# Altium schematic symbol library boxer_mechanical.SchLib: 25 symbols
Pins are listed as number, name and electrical type; pins without a type are passive.

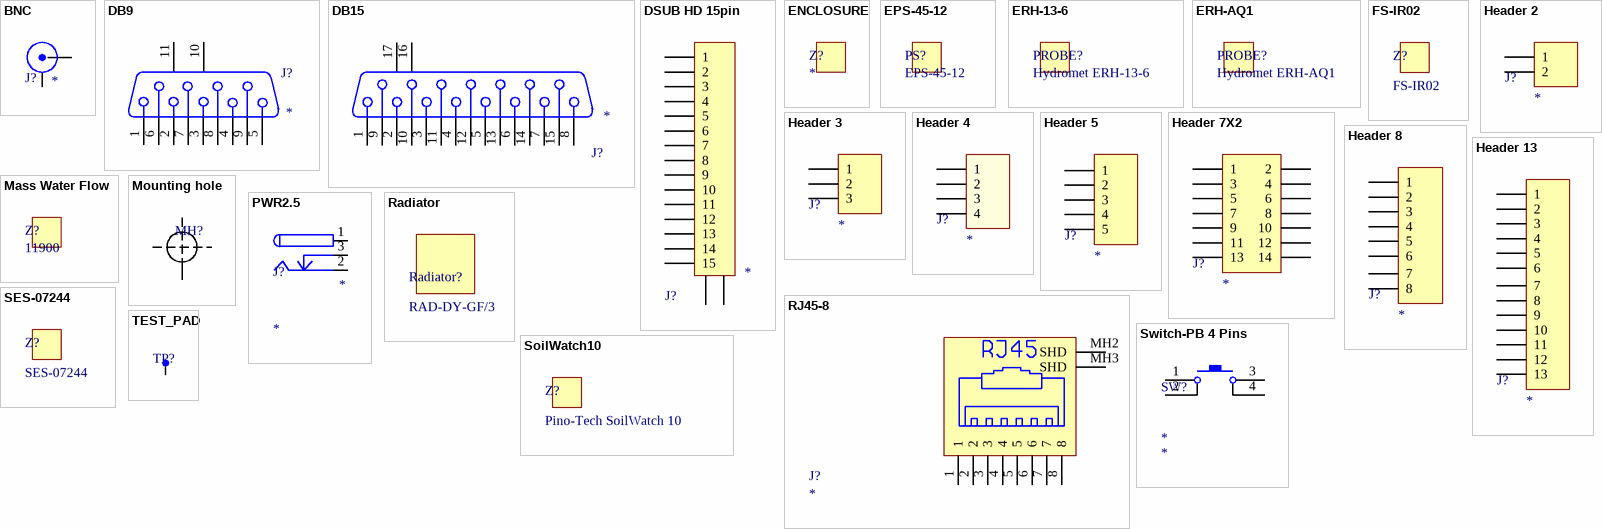
[diagram p0: symbols BNC to TEST_PAD]

## BNC
designator J?  (value not drawn)
BNC Elbow Connector; Value: *
footprint BNC_RA CON (Connector; BNC Elbow)
signal-integrity model Connector
pins: 1 OUT, 2 GND

## DB9
designator J?
Receptacle Assembly, 9 Position, Right Angle; Value: *
footprint DSUB1.385-2H9 (Connector; D Subminiature; 9 Position; Right Angle; Pitch 1.385 mm)
signal-integrity model Connector
pins: 1, 2, 3, 4, 5, 6, 7, 8, 9, 10 MH1, 11 MH2

## DB15
designator J?
Receptacle Assembly, 15 Position, Right Angle; Value: *
footprint DSUB1.385-2H15 (Connector; D Subminiature; 15 Position; Right Angle; Pitch 1.385 mm)
signal-integrity model Connector
pins: 1, 2, 3, 4, 5, 6, 7, 8, 9, 10, 11, 12, 13, 14, 15, 16 MH1, 17 MH2

## DSUB HD 15pin
designator J?
DSUB HD 15pin; Value: *
footprint DSUB15F
signal-integrity model Connector
pins: 0, 0, 1, 2, 3, 4, 5, 6, 7, 8, 9, 10, 11, 12, 13, 14, 15

## ENCLOSURE
designator Z?
footprint CU-389-MB

## EPS-45-12
designator PS?  (mechanical)

## ERH-13-6
designator PROBE?, comment Hydromet ERH-13-6  (mechanical)
Hydromet ERH-AQ1 Soil pH probe

## ERH-AQ1
designator PROBE?, comment Hydromet ERH-AQ1  (mechanical)
Hydromet ERH-AQ1 Water pH probe

## FS-IR02
designator Z?
IR Liquid Level Sensor, Vcc 5VDC; Iout = 12mA; Temp. = -25*C - 105*C

## Header 2
designator J?  (value not drawn)
Header, 2-Pin; Value: *
footprint header 5mm 2pin
signal-integrity model Connector
footprint header 2.54mm 2pin
pins: 1, 2

## Header 3
designator J?
Header, 3-Pin; Value: *
footprint HDR1X3H (Connector; Header; 3 Position; Right Angle)
signal-integrity model Connector
pins: 1, 2, 3

## Header 4
designator J?
Header, 4-Pin; Value: *
signal-integrity model Connector
pins: 1, 2, 3, 4

## Header 5
designator J?
Header, 5-Pin; Value: *
signal-integrity model Connector
footprint header 2.54mm 5pin
pins: 1, 2, 3, 4, 5

## Header 7X2
designator J?  (value not drawn)
Header, 7-Pin, Dual row; Value: *
footprint HDR2X7 (Connector; Header; 7x2 Position)
signal-integrity model Connector
pins: 1, 2, 3, 4, 5, 6, 7, 8, 9, 10, 11, 12, 13, 14

## Header 8
designator J?
Header, 8-Pin; Value: *
signal-integrity model Connector
footprint header 2.54mm 8pin
pins: 1, 2, 3, 4, 5, 6, 7, 8

## Header 13
designator J?
Header 13 pin; Value: *
footprint header 2.54mm 13pin
signal-integrity model Connector
pins: 1, 2, 3, 4, 5, 6, 7, 8, 9, 10, 11, 12, 13

## Mass Water Flow
designator Z?, comment 11900  (graphical)
Electropark 11900, Przepływomierz 0.15-3L/min czujnik przepływu typ 2

## Mounting hole
designator MH?  (value not drawn)
footprint MH_M3 (M3 3mm hole)
footprint MH_M2.5 (M2.5)
pins: MH

## PWR2.5
designator J?
Low Voltage Power Supply Connector; ComponentLink1Description: Manufacturer Link; ComponentLink1URL: http://domino.kycon.com/internet/Products.html; Value: *
footprint WE_WR_DC_694106301002
signal-integrity model Connector
pins: 1 (power), 2 (power), 3 (power)

## Radiator
designator Radiator?, comment RAD-DY-GF/3
footprint Radiator (RAD-DY-GF/3)

## RJ45-8
designator J?  (value not drawn)
RJ45 Socket, 8pin, No Key, Molex MX-95001-2881; Value: *
footprint RJ45-8_SHIELDED
pins: 1, 2, 3, 4, 5, 6, 7, 8, MH2 SHD, MH3 SHD
2 alternate drawings of the same symbol

## SES-07244
designator Z?
Czujnik poziomu cieczy z kontaktronem, Imax = 0,5A; Rezystancja kontaktronu = 100Ohm; 1MPa; temp. -30*C - 125*C; Vmax = 110VDC

## SoilWatch10
designator Z?, comment Pino-Tech SoilWatch 10
Capacitance Water Soil Sensor, 75MHz; Vcc - 3,1- 5VDC; Vout - analog 0-3VDC; Ioutmax = 24mA; Temp. = 2*C - 45*C; IP67

## Switch-PB 4 Pins
designator SW?
Switch 4 Pins; Value: *
footprint SPST_NO_1301 (Micro Switch case 1301)
pins: 1, 2, 3, 4

## TEST_PAD
designator TP?, comment TEST PAD  (value not drawn)
PAD 1.5mm
footprint PIN (Test Pad)
pins: 1